# Altium footprint library S101031MS02Q.PcbLib: 1 footprints
Each footprint in its own frame and in the unit in brackets; x right, y up, seen from the top. Pads: shape width x height; smd on the part's side, far side on the other; paste and mask are expansions set on the pad; w line width, h text height; cw(c..) or ccw(c..) is an arc to the next point about the centre after c.
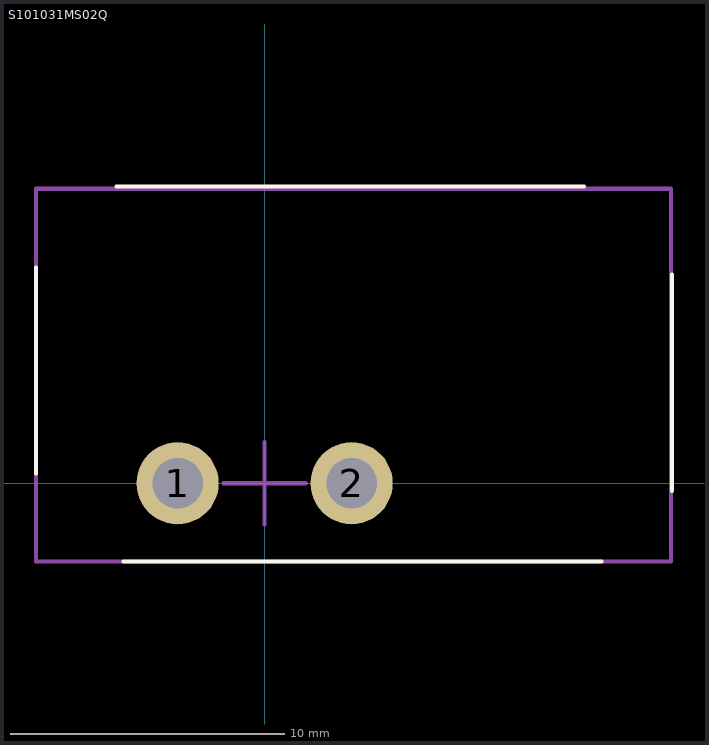
[diagram p0: the footprint, top view; thin cyan lines are the x and y axes]

## S101031MS02Q [mm]
pads (2):
  round 3 hole 1.85 mask+0: 1(-3.175,0) 2(3.175,0)
Top Overlay:
  lines w0.15: -8.35,0.35 -8.35,7.875 ; -5.4,10.825 11.65,10.825 ; -5.15,-2.85 12.3,-2.85 ; 14.875,-0.275 14.875,7.625
Mechanical 13:
  lines w0.15: -8.35,-2.85 14.575,-2.85 14.825,-2.85 14.825,10.75 -8.35,10.75 -8.35,-2.85
Mechanical 15:
  lines w0.15: -1.5,0 0,0 ; 0,-1.5 0,0 ; 0,1.5 0,0 ; 1.5,0 0,0
3D body "S101031MS02Q.stp": height 18.75, standoff -3.22, extent -8.25,-2.75 14.737,10.712